# Altium schematic symbol library UF4005.SchLib: 1 symbol
Pins are listed as number, name and electrical type; pins without a type are passive.

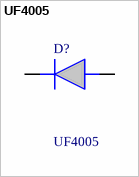
[diagram p0: symbol UF4005]

## UF4005
designator D?
Rectifiers Ultrafast, DO-41, 600V, 1A, 175C; Manufacturer_Name: Diotec; Mouser Part Number: 637-UF4005; Mouser Price/Stock: https://www.mouser.co.uk/ProductDetail/Diotec-Semiconductor/UF4005?qs=OlC7AqGiEDkmzrSpAlXJ9Q%3D%3D; Manufacturer_Part_Number: UF4005; Datasheet Link: https://www.arrow.com/en/products/uf4005/diotec-semiconductor-ag?region=europe
footprint DIOAD1510W84L490D255
pins: 1 K, 2 A